# EAGLE library part ESP32_DEVKITC (library Transputer)
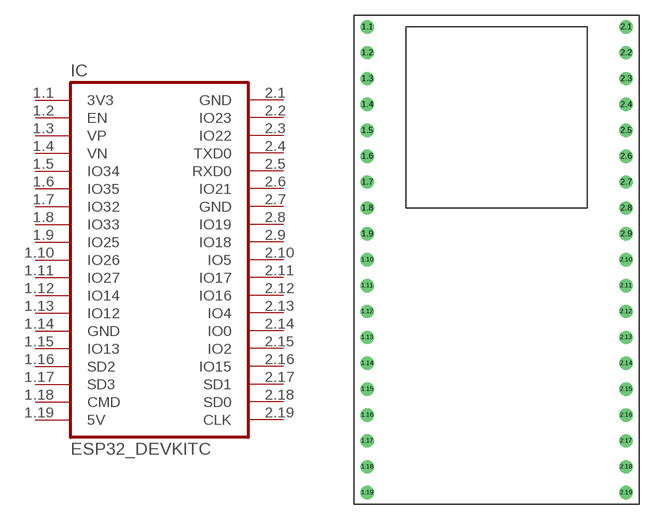
[diagram p10: symbol with the pads of ESP32_DEVKITC; footprint ESP32_DEVKITC]

Designator prefix IC

## ESP32_DEVKITC  [ESP32_DEVKITC]
1.1  3V3  pwr
1.2  EN  in
1.3  VP  in
1.4  VN  in
1.5  IO34  in
1.6  IO35  in
1.7  IO32
1.8  IO33
1.9  IO25
1.10  IO26
1.11  IO27
1.12  IO14
1.13  IO12
1.14  GND  pwr
1.15  IO13
1.16  SD2
1.17  SD3
1.18  CMD
1.19  5V  pwr
2.1  GND  pwr
2.2  IO23
2.3  IO22
2.4  TXD0
2.5  RXD0
2.6  IO21
2.7  GND  pwr
2.8  IO19
2.9  IO18
2.10  IO5
2.11  IO17
2.12  IO16
2.13  IO4
2.14  IO0
2.15  IO2
2.16  IO15
2.17  SD1
2.18  SD0
2.19  CLK

## Footprint ESP32_DEVKITC (pad centres in mm)
drill 0.8: 1.1 -12.7,22.86; 1.2 -12.7,20.32; 1.3 -12.7,17.78; 1.4 -12.7,15.24; 1.5 -12.7,12.7; 1.6 -12.7,10.16; 1.7 -12.7,7.62; 1.8 -12.7,5.08; 1.9 -12.7,2.54; 1.10 -12.7,0; 1.11 -12.7,-2.54; 1.12 -12.7,-5.08; 1.13 -12.7,-7.62; 1.14 -12.7,-10.16; 1.15 -12.7,-12.7; 1.16 -12.7,-15.24; 1.17 -12.7,-17.78; 1.18 -12.7,-20.32; 1.19 -12.7,-22.86; 2.1 12.7,22.86; 2.2 12.7,20.32; 2.3 12.7,17.78; 2.4 12.7,15.24; 2.5 12.7,12.7; 2.6 12.7,10.16; 2.7 12.7,7.62; 2.8 12.7,5.08; 2.9 12.7,2.54; 2.10 12.7,0; 2.11 12.7,-2.54; 2.12 12.7,-5.08; 2.13 12.7,-7.62; 2.14 12.7,-10.16; 2.15 12.7,-12.7; 2.16 12.7,-15.24; 2.17 12.7,-17.78; 2.18 12.7,-20.32; 2.19 12.7,-22.86